# Altium schematic symbol library LORASX1278.SchLib: 1 symbol
Pins are listed as number, name and electrical type; pins without a type are passive.

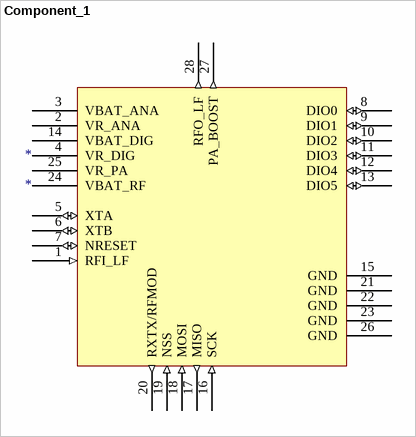
[diagram p0: symbol Component_1]

## Component_1
designator *
footprint QFN65P600X600X100_HS-29N (QFN, 28-Leads, Body 6,00x6,00mm, Pitch 0,65mm, Thermal Pad 4,78x4,78mm, IPC Medium Density)
pins: 1 RFI_LF (in), 2 VR_ANA, 3 VBAT_ANA, 4 VR_DIG, 5 XTA (io), 6 XTB (io), 7 NRESET (io), 8 DIO0 (io), 9 DIO1 (io), 10 DIO2 (io), 11 DIO3 (io), 12 DIO4 (io), 13 DIO5 (io), 14 VBAT_DIG, 15 GND, 16 SCK (in), 17 MISO (out), 18 MOSI (in), 19 NSS (in), 20 RXTX/RFMOD (out), 21 GND, 22 GND, 23 GND, 24 VBAT_RF, 25 VR_PA, 26 GND, 27 PA_BOOST (out), 28 RFO_LF (out)